# Altium footprint library 4610X-101-221LF.PcbLib: 1 footprints
Each footprint in its own frame and in the unit in brackets; x right, y up, seen from the top. Pads: shape width x height; smd on the part's side, far side on the other; paste and mask are expansions set on the pad; w line width, h text height; cw(c..) or ccw(c..) is an arc to the next point about the centre after c.
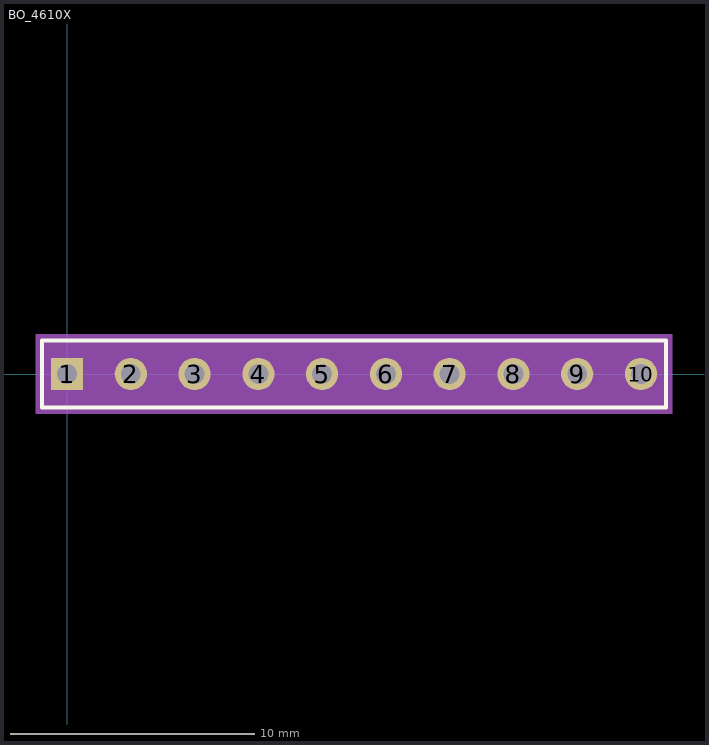
[diagram p0: the footprint, top view; thin cyan lines are the x and y axes]

## BO_4610X [mil]
pads (10):
  rect 52x52 hole 32 mask+0: 1(0,0)
  round 52 hole 32 mask+0: 2(103,0) 3(206,0) 4(309,0) 5(412,0) 6(515,0) 7(618,0) 8(721,0) 9(824,0) 10(927,0)
Top Overlay:
  lines w6: -40.5,-54 967.5,-54 967.5,54 -40.5,54 -40.5,-54
Mechanical 5:
  region: -50.5,64 977.5,64 977.5,-64 -50.5,-64
Mechanical 13:
  lines w1: -35.5,-49 962.5,-49 962.5,49 -35.5,49 -35.5,-49
Mechanical 15:
  region: 972.5,59 -45.5,59 -45.5,-59 972.5,-59
  lines w6: -45.5,-59 -45.5,59 972.5,59 972.5,-59 -45.5,-59
3D body "BO_4610X.step": height 200, standoff -187.99, extent -35.51,-49.02 962.48,49.02